# Altium schematic symbol library INA826AID.SchLib: 1 symbol
Pins are listed as number, name and electrical type; pins without a type are passive.

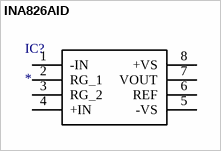
[diagram p0: symbol INA826AID]

## INA826AID
designator IC?
Integrated Circuit; Manufacturer_Name: Texas Instruments; Manufacturer_Part_Number: INA826AID; Description: Texas Instruments INA826AID Instrumentation Amplifier; Datasheet Link: http://www.ti.com/lit/gpn/ina826; Height: 1.75mm; Mouser Part Number: 595-INA826AID; Mouser Price/Stock: https://www.mouser.com/Search/Refine.aspx?Keyword=595-INA826AID; RS Part Number: 9212892; RS Price/Stock: https://uk.rs-online.com/web/p/products/9212892
footprint SOIC127P600X175-8N
pins: 1 -IN, 2 RG_1, 3 RG_2, 4 +IN, 5 -VS, 6 REF, 7 VOUT, 8 +VS